# Altium footprint library TEXT_BARCODE_ALL.PcbLib: 1 footprints
Each footprint in its own frame and in the unit in brackets; x right, y up, seen from the top. Pads: shape width x height; smd on the part's side, far side on the other; paste and mask are expansions set on the pad; w line width, h text height; cw(c..) or ccw(c..) is an arc to the next point about the centre after c.
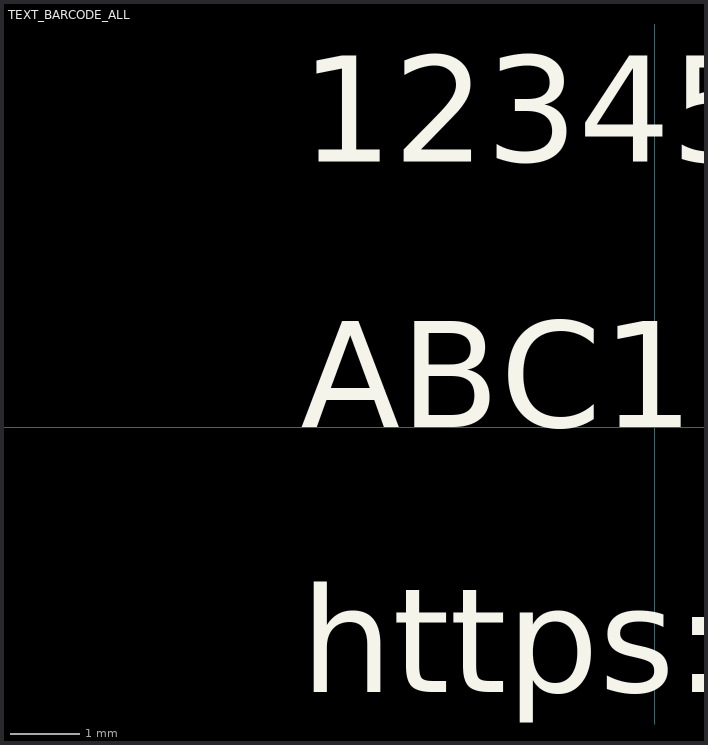
[diagram p0: the footprint, top view; thin cyan lines are the x and y axes]

## TEXT_BARCODE_ALL [mm] "Various barcode types"
Top Overlay:
  text "https://test.com" at -5.08,-3.81 h1.52
  text "ABC123" at -5.08,0 h1.52
  text "12345" at -5.08,3.81 h1.52